# EAGLE library part MAX4145 (library opamps)
MAX4145: High speed differential line receiver (Maxim) ±5V, ±40mA, 30µA bias 9mV offset, 180MHz UGF, 20nV/rt(Hz) noise
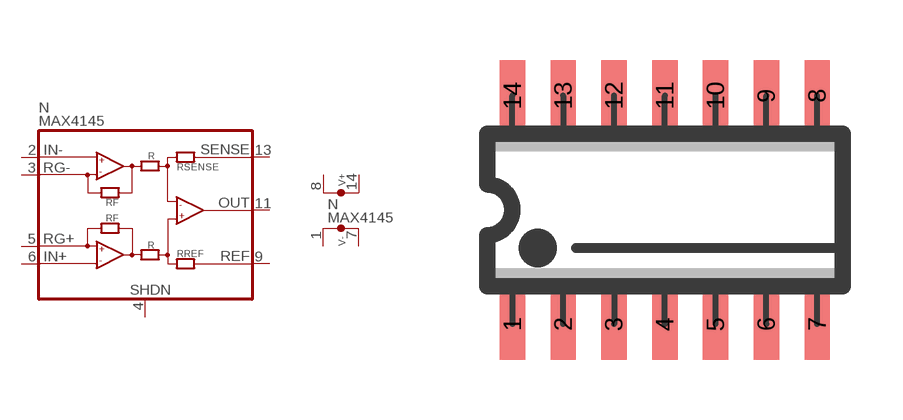
[diagram p231: symbol with the pads of SO14; footprint SO14]

Designator prefix N; gates A=MAX4145 P=V2+2-B

## MAX4145  [SO14]
1  P:V-  pwr
2  A:IN-  in
3  A:RG-  in
4  A:SHDN  in
5  A:RG+  in
6  A:IN+  in
7  P:V-  pwr
8  P:V+  pwr
9  A:REF
11  A:OUT  out
13  A:SENSE
14  P:V+  pwr

## MAX4145S  [SO14]
Pads as for SO14

## Footprint SO14 (pad centres in mm)
SO-14, SMD SOIC IC package, 14 pins
smd 0.635 x 1.778: 1 -3.81,-2.857; 2 -2.54,-2.857; 3 -1.27,-2.857; 4 0,-2.857; 5 1.27,-2.857; 6 2.54,-2.857; 7 3.81,-2.857; 8 3.81,2.857; 9 2.54,2.857; 10 1.27,2.857; 11 0,2.857; 12 -1.27,2.857; 13 -2.54,2.857; 14 -3.81,2.857